# Altium footprint library IntegratedModule.PcbLib: 2 footprints
Each footprint in its own frame and in the unit in brackets; x right, y up, seen from the top. Pads: shape width x height; smd on the part's side, far side on the other; paste and mask are expansions set on the pad; w line width, h text height; cw(c..) or ccw(c..) is an arc to the next point about the centre after c.
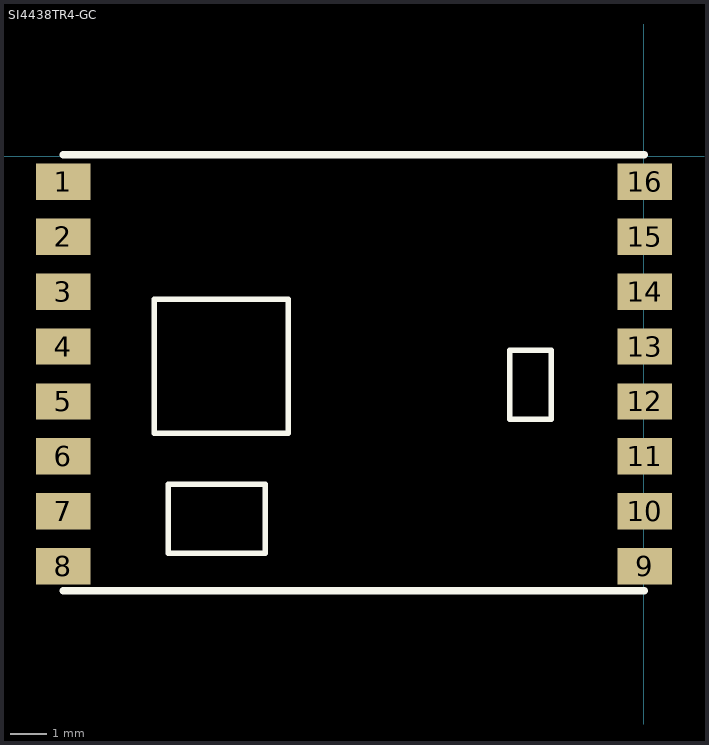
[diagram p0: the footprints below, top view; thin cyan lines are the x and y axes]

## PCBComponent_1 [mm]

## SI4438TR4-GC [mm]
pads (16):
  rect 1.5x1 smd: 1(-15.977,-0.699) 2(-15.977,-2.21) 3(-15.977,-3.721) 4(-15.977,-5.232) 5(-15.977,-6.744) 6(-15.977,-8.255) 7(-15.977,-9.766) 8(-15.977,-11.278) 9(0.038,-11.278) 10(0.038,-9.766) 11(0.038,-8.255) 12(0.038,-6.744) 13(0.038,-5.232) 14(0.038,-3.721) 15(0.038,-2.21) 16(0.038,-0.699)
Top Overlay:
  lines w0.152: -13.462,-7.62 -9.779,-7.62 -9.779,-3.937 -13.462,-3.937 -13.462,-7.62 ; -13.081,-10.922 -13.081,-9.017 -10.414,-9.017 -10.414,-10.922 -13.081,-10.922 ; -3.683,-7.239 -3.683,-5.334 -2.54,-5.334 -2.54,-7.239 -3.683,-7.239
  lines w0.203: -15.977,-11.951 0.025,-11.951 ; -15.977,0.051 0.025,0.051
3D body: height 2, standoff 0, extent -16.002,-12.065 0,0